# EAGLE library part NUCLEO-32 (library myFab)
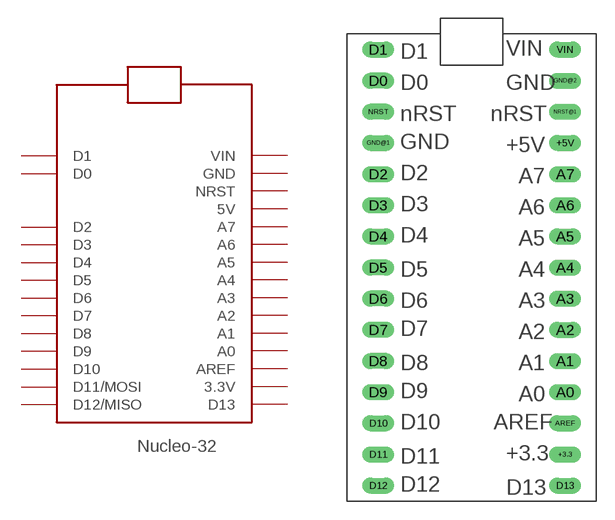
[diagram p28: symbol with the pads of NUCLEO-32; footprint NUCLEO-32]

Designator prefix -

## NUCLEO-32  [NUCLEO-32]
+3.3  3.3V
+5V  5V
A0  A0
A1  A1
A2  A2
A3  A3
A4  A4
A5  A5
A6  A6
A7  A7
AREF  AREF
D0  D0
D1  D1
D2  D2
D3  D3
D4  D4
D5  D5
D6  D6
D7  D7
D8  D8
D9  D9
D10  D10
D11  D11/MOSI
D12  D12/MISO
D13  D13
GND@1  GND
GND@2  GND
NRST  NRST
NRST@1  NRST
VIN  VIN

## Footprint NUCLEO-32 (pad centres in mm)
drill 0.8 long: +3.3 5.08,-6.35; +5V 5.08,19.05; A0 5.08,-1.27; A1 5.08,1.27; A2 5.08,3.81; A3 5.08,6.35; A4 5.08,8.89; A5 5.08,11.43; A6 5.08,13.97; A7 5.08,16.51; AREF 5.08,-3.81; D0 -10.16,24.13; D1 -10.16,26.67; D2 -10.16,16.51; D3 -10.16,13.97; D4 -10.16,11.43; D5 -10.16,8.89; D6 -10.16,6.35; D7 -10.16,3.81; D8 -10.16,1.27; D9 -10.16,-1.27; D10 -10.16,-3.81; D11 -10.16,-6.35; D12 -10.16,-8.89; D13 5.08,-8.89; GND@1 -10.16,19.05; GND@2 5.08,24.13; NRST -10.16,21.59; NRST@1 5.08,21.59; VIN 5.08,26.67